# EAGLE library part MKDS-10 (library con-phoenix-500)
MKDSN COMBICON SERIES
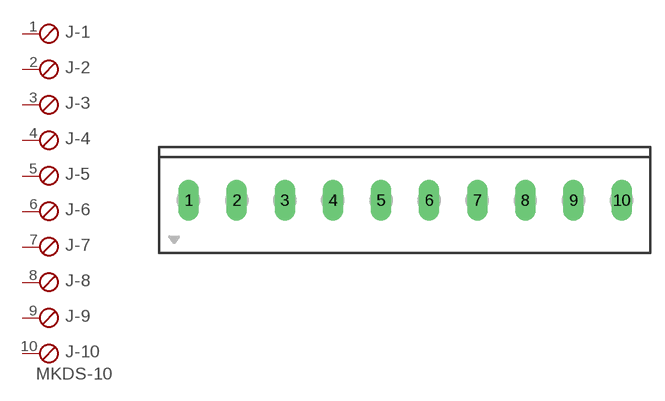
[diagram p15: symbol with the pads of MKDS-10; footprint MKDS-10]

Designator prefix J; gates -1=SKB -2=SKB -3=SKB -4=SKB -5=SKB -6=SKB -7=SKB -8=SKB -9=SKB -10=SKBV

## MKDS-10  [MKDS-10]
1  -1:1  pas
2  -2:1  pas
3  -3:1  pas
4  -4:1  pas
5  -5:1  pas
6  -6:1  pas
7  -7:1  pas
8  -8:1  pas
9  -9:1  pas
10  -10:1  pas

## Footprint MKDS-10 (pad centres in mm)
5.00 mm
drill 1.422 long: 1 -22.46,0; 2 -17.46,0; 3 -12.46,0; 4 -7.46,0; 5 -2.46,0; 6 2.54,0; 7 7.54,0; 8 12.54,0; 9 17.54,0; 10 22.54,0